# Altium schematic symbol library bat54slt1g.SchLib: 1 symbol
Pins are listed as number, name and electrical type; pins without a type are passive.

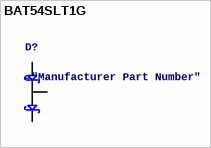
[diagram p0: symbol BAT54SLT1G]

## BAT54SLT1G
designator D?
DIODE SCHOTTKY DUAL 30V SOT23
pins: 1, 2, 3